# Altium footprint library LightPipeRA1.PcbLib: 1 footprints
Each footprint in its own frame and in the unit in brackets; x right, y up, seen from the top. Pads: shape width x height; smd on the part's side, far side on the other; paste and mask are expansions set on the pad; w line width, h text height; cw(c..) or ccw(c..) is an arc to the next point about the centre after c.
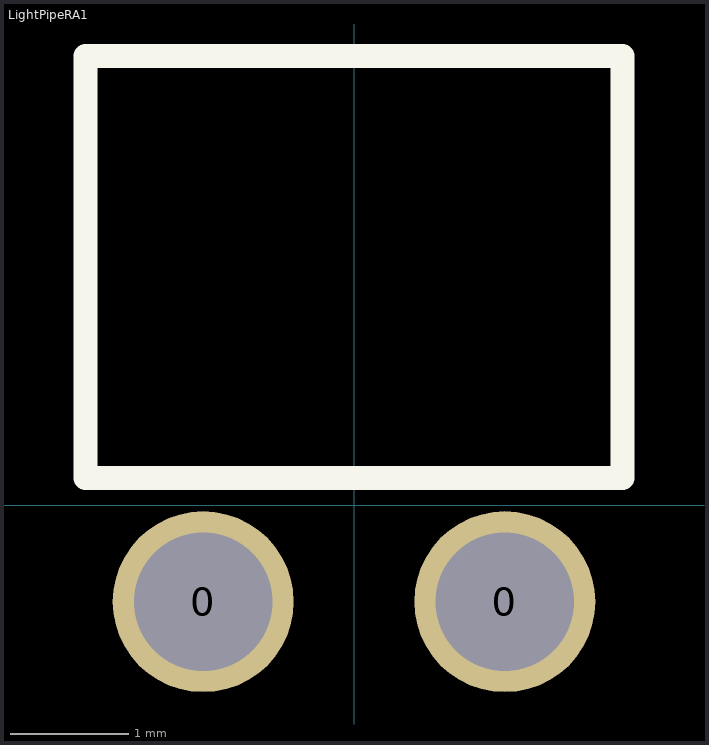
[diagram p0: the footprint, top view; thin cyan lines are the x and y axes]

## LightPipeRA1 [mil] "Light Pipe RA"
pads (2):
  round 60 hole 46: 0(-50,-32) 0(50,-32)
Top Overlay:
  lines w8: -89,9 89,9 89,149 -89,149 -89,9
3D body: height 358.27, standoff -62.99, extent -88.58,-75 88.58,275.39